# Altium footprint library OWMR.PcbLib: 28 footprints (part 2 of 2)
Each footprint in its own frame and in the unit in brackets; x right, y up, seen from the top. Pads: shape width x height; smd on the part's side, far side on the other; paste and mask are expansions set on the pad; w line width, h text height; cw(c..) or ccw(c..) is an arc to the next point about the centre after c.
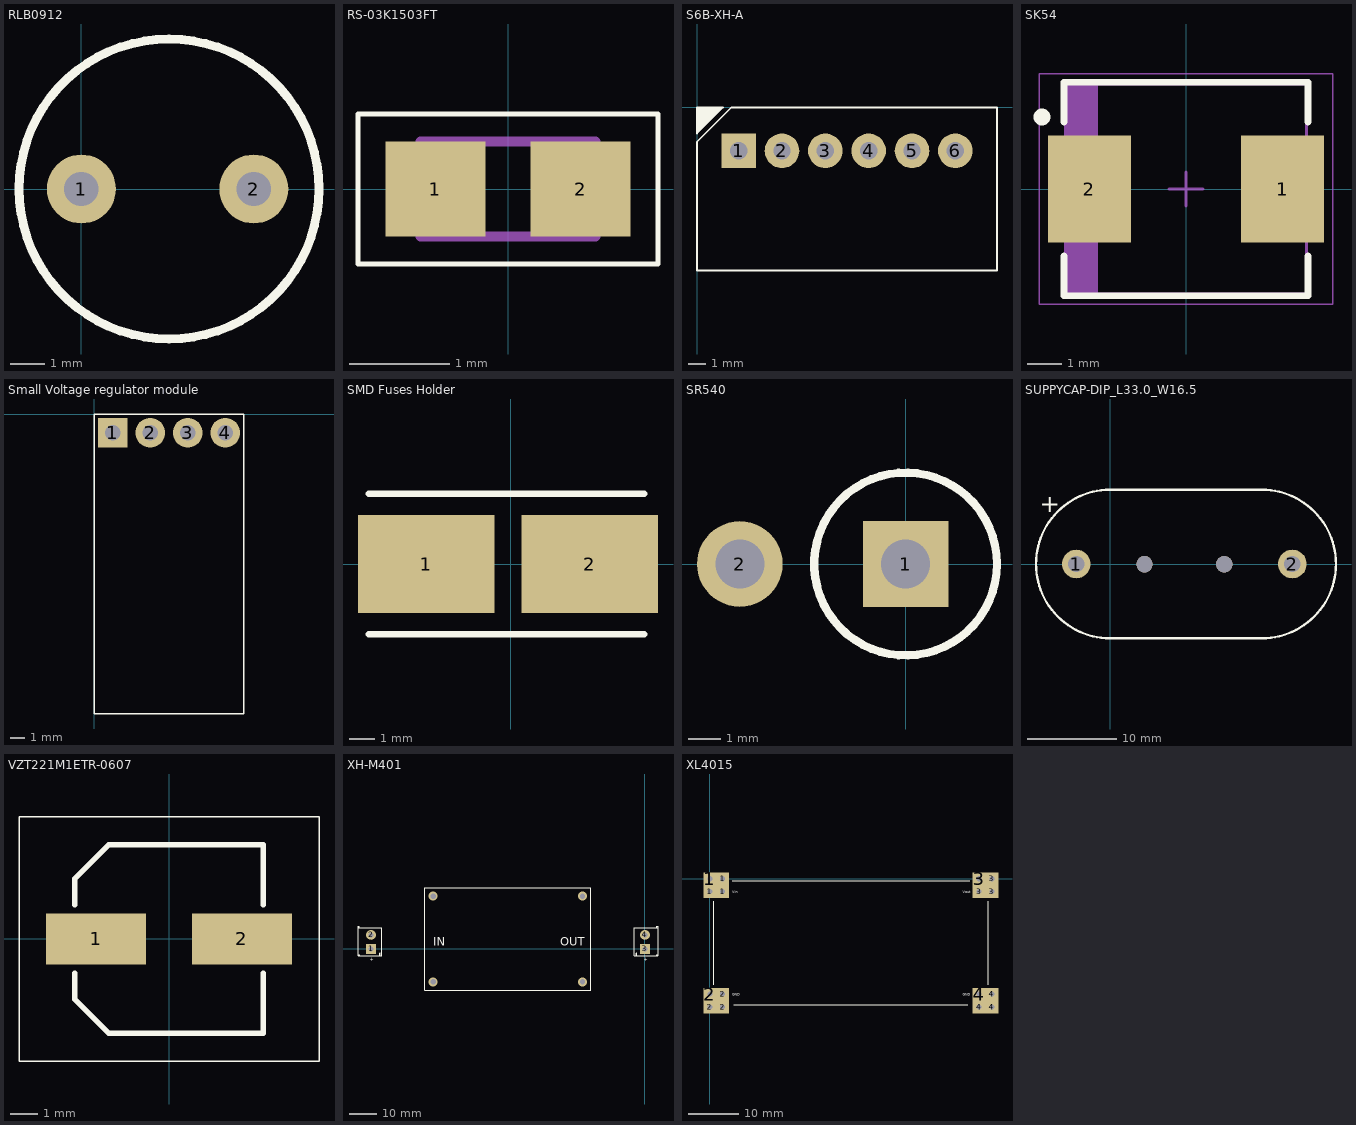
[diagram p1: the footprints below, top view; thin cyan lines are the x and y axes]

## Raspberry 4 [mm]

## RLB0912 [mm]
pads (2):
  round 2 hole 1: 1(0,0) 2(5,0)
Top Overlay:
  circle w0.254: c2.54,0 r4.35

## RS-03K1503FT [mm] "0603 150k 1/10w Resistor"
height 0.5
pads (2):
  rect 1x0.95 smd: 1(-0.725,0) 2(0.725,0)
Top Overlay:
  lines w0.05: -1.5,-0.75 1.5,-0.75 1.5,0.75 -1.5,0.75 -1.5,-0.75
Top Assembly:
  lines w0.1: -0.875,-0.475 0.875,-0.475 0.875,0.475 -0.875,0.475 -0.875,-0.475
3D body "RESC1608X05N.step": height 0.5, standoff 0, extent -0.875,-0.475 0.875,0.475

## S6B-XH-A [mil] "XH Header-side 6P"
pads (6):
  rect 80x80 hole 40: 1(96,-100)
  round 80 hole 40: 2(196,-100) 3(296,-100) 4(396,-100) 5(496,-100) 6(596,-100)
Top Overlay:
  region: 0,0 60,0 0,-60
  lines w3.94: 0,-376 0,-78.74 78.74,0 692,0 692,-376 0,-376 ; 0,-60 60,0 0,0 0,-60
3D body: height 358.27, standoff 0, extent 0,-376 692,0

## SK54 [mm] "Molded Diode, 2-Leads, Body 6.86x5.91mm, IPC Medium Density"
height 2.62
pads (2):
  rect 2.45x3.15 smd: 1(2.85,0) 2(-2.85,0)
Top Overlay:
  circle w0.25: c-4.25,2.125 r0.125
  lines w0.2: -3.6,-1.975 -3.6,-3.15 3.6,-3.15 3.6,-1.975 ; -3.6,1.975 -3.6,3.15 3.6,3.15 3.6,1.975
Top 3D body:
  rectangle: -3.555,-3.11 -2.599,3.11
  lines w0.1: -3.555,-3.11 -3.555,3.11 3.555,3.11 3.555,-3.11 -3.555,-3.11
Bottom 3D body:
  lines w0.05: -4.325,-3.4 -4.325,3.4 4.325,3.4 4.325,-3.4 -4.325,-3.4
  lines w0.1: -0.5,0 0.5,0 ; 0,-0.5 0,0.5
3D body: height 2.62, standoff 0, extent -3.555,-3.11 3.555,3.11

## Small Voltage regulator module [mm]
pads (4):
  rect 2x2 hole 1.02: 1(1.27,-1.27)
  round 2 hole 1.02: 2(3.81,-1.27) 3(6.35,-1.27) 4(8.89,-1.27)
Top Overlay:
  lines w0.1: 0,-20.32 0,0 10.16,0 10.16,-20.32 0,-20.32

## SMD Fuses Holder [mil] "SMD 1808 Fuse Holder"
pads (2):
  rect 210x150 smd: 1(-130,0) 2(121,0)
Top Overlay:
  lines w10: -218.58,-108.27 204.65,-108.27 ; -218.58,108.27 204.65,108.27

## SR540 [mm]
pads (2):
  rect 2.625x2.625 hole 1.5: 1(0,0)
  round 2.625 hole 1.5: 2(-5.08,0)
Top Overlay:
  circle w0.254: c0,0 r2.8

## SUPPYCAP-DIP_L33.0_W16.5 [mm]
pads (2):
  round 3.2 hole 1.83: 1(-3.802,0) 2(20.328,0)
via 3.818,-0.015 diameter 1.83 hole 1.83
via 12.708,-0.015 diameter 1.83 hole 1.83
Top Overlay:
  lines w0.254: 0,-8.3 cw(c0,0) 0,8.3 16.899,8.3 cw(c16.899,0) 16.899,-8.3 0,-8.3
  text "+" at -7.882,5.755 h2

## VZT221M1ETR-0607 [mm] "SMD 6.3x7.7mm 220uF 25V Capacitor"
height 8
pads (2):
  rect 3.6x1.85 smd: 1(-2.625,0) 2(2.625,0)
Top Overlay:
  lines w0.05: -5.4,-4.4 5.4,-4.4 5.4,4.4 -5.4,4.4 -5.4,-4.4
  lines w0.2: -3.4,-1.225 -3.4,-2.163 -2.163,-3.4 3.4,-3.4 3.4,-1.225 ; -3.4,1.225 -3.4,2.163 -2.163,3.4 3.4,3.4 3.4,1.225
3D body "CAPAE7266X80M.step": height 8, standoff 0, extent -3.6,-3.4 3.6,3.4

## XH-M401 [mil]
pads (4):
  rect 140x140 hole 70: 1(-3899.21,0) 3(0,0)
  round 140 hole 70: 2(-3899.21,200) 4(0,200)
via -888.98,751.02 diameter 127.95 hole 75
via -888.98,-469.45 diameter 127.95 hole 75
via -3014.96,-469.45 diameter 127.95 hole 75
via -3014.96,751.02 diameter 127.95 hole 75
Top Overlay:
  circle w10: c-3774.61,-74.61 r10
  circle w10: c-124.61,-74.61 r10
  lines w10: -4084.25,-99.96 -4084.25,300 ; -4084.25,-80 -4064.25,-80 -4064.25,-100 ; -4084.21,-100 -3749.61,-100 ; -4064.25,300 -4064.25,320 -4084.25,320 -4084.25,300 ; -3749.61,-99.61 -3749.61,300 -4084.25,300 ; -149.61,-100 185,-100 ; -149.61,-99.61 -149.61,300 185.04,300 ; 165.04,-100 165.04,-80 185.04,-80 ; 165.04,300 165.04,320 185.04,320 185.04,300 ; 185.04,-99.96 185.04,300 ; -3133.07,-587.56 -770.87,-587.56 -770.87,869.13 -3133.07,869.13 -3133.07,-587.56
  text "+" at -15,-173.33 h50
  text "+" at -3914.21,-173.33 h50
  text "IN" at -3014.96,42.36 h118.11
  text "OUT" at -1203.94,42.36 h118.11

## XL4015 [mm] "5A DC-DC Non-isolated voltage regulator module"
pads (16):
  rect 2x2 hole 1: 1(0,-2.54) 1(2.54,-2.54) 1(2.54,0) 2(0,-25.4) 2(2.54,-25.4) 2(2.54,-22.86) 3(53.34,-2.54) 3(55.88,-2.54) 3(55.88,0) 4(53.34,-25.4) 4(55.88,-25.4) 4(55.88,-22.86)
  rect 5.08x5.08 hole 1 copper offset 1.27,-1.27: 1(0,0) 2(0,-22.86) 3(53.34,0) 4(53.34,-22.86)
Top Overlay:
  lines w0.1: 0.74,-20.955 0.74,-4.445 ; 4.445,-0.4 51.435,-0.4 ; 4.71,-25 51.065,-25 ; 55.14,-20.955 55.14,-4.445
  text "Vin" at 4.396,-2.84 h0.5
  text "GND" at 4.396,-23.16 h0.5
  text "GND" at 50.116,-23.16 h0.5
  text "Vout" at 50.116,-2.84 h0.5